# EAGLE library part LTC4062 (library linear-tech-3)
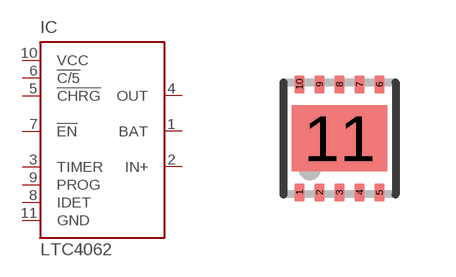
[diagram p58: symbol with the pads of DFN10; footprint DFN10]

Designator prefix IC

## LTC4062DD  [DFN10]
1  BAT  pas
2  IN+  in
3  TIMER  pas
4  OUT  oc
5  !CHRG  oc
6  !C/5  in
7  !EN  in
8  IDET  pas
9  PROG  pas
10  VCC  pwr
11  GND  pwr

## Footprint DFN10 (pad centres in mm)
smd 0.25 x 0.45: 1 -1,-1.35; 2 -0.5,-1.35; 3 0,-1.35; 4 0.5,-1.35; 5 1,-1.35; 6 1,1.35; 7 0.5,1.35; 8 0,1.35; 9 -0.5,1.35; 10 -1,1.35
smd 2.38 x 1.65: 11 0,0